# Altium schematic symbol library THUVIEN.SchLib: 7 symbols
Pins are listed as number, name and electrical type; pins without a type are passive.

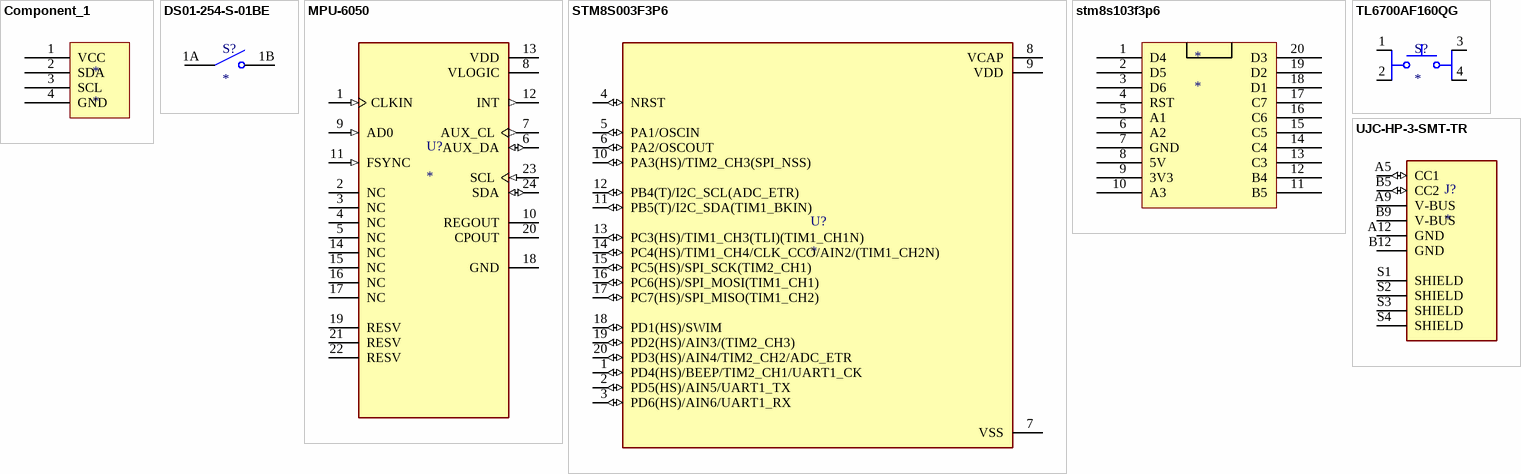
[diagram p0: symbols Component_1 to UJC-HP-3-SMT-TR]

## Component_1
designator *
footprint PCBComponent_1
pins: 1 VCC, 2 SDA, 3 SCL, 4 GND

## DS01-254-S-01BE
designator S?
1 Position, Through Hole, 2.54 mm Pitch, Raised Slide Actuator, Flat Bottom, Short Pin, DIP Switch; MF: Same Sky; MP: DS01-254-S-01BE; SnapEDA_Link: https://www.snapeda.com/parts/DS01-254-S-01BE/Same+Sky/view-part/?ref=snap; Package: None; Value: *; Check_prices: https://www.snapeda.com/parts/DS01-254-S-01BE/Same+Sky/view-part/?ref=eda
footprint SW_DS01-254-S-01BE
pins: 1A COM1, 1B NO1

## MPU-6050
designator U?
MPU-6050 series Accelerometer, Gyroscope, 3 Axis Sensor Evaluation Board; MF: TDK InvenSense; SnapEDA_Link: https://www.snapeda.com/parts/MPU-6050/TDK+InvenSense/view-part/?ref=snap; Package: QFN-24 InvenSense; Value: *; MP: MPU-6050; Check_prices: https://www.snapeda.com/parts/MPU-6050/TDK+InvenSense/view-part/?ref=eda
footprint QFN50P400X400X95-24N
pins: 1 CLKIN (in), 2 NC, 3 NC, 4 NC, 5 NC, 6 AUX_DA (io), 7 AUX_CL (out), 8 VLOGIC (power), 9 AD0 (in), 10 REGOUT, 11 FSYNC (in), 12 INT (out), 13 VDD (power), 14 NC, 15 NC, 16 NC, 17 NC, 18 GND (power), 19 RESV, 20 CPOUT, 21 RESV, 22 RESV, 23 SCL (in), 24 SDA (io)

## STM8S003F3P6
designator U?
STM8 series Microcontroller IC 8-Bit 16MHz 8KB (8K x 8) FLASH 20-TSSOP; MF: STMicroelectronics; MP: STM8S003F3P6; SnapEDA_Link: https://www.snapeda.com/parts/STM8S003F3P6/STMicroelectronics/view-part/?ref=snap; Package: TSSOP-20 STMicroelectronics; Value: *; Check_prices: https://www.snapeda.com/parts/STM8S003F3P6/STMicroelectronics/view-part/?ref=eda
footprint SOP65P640X120-20N
pins: 1 PD4(HS)/BEEP/TIM2_CH1/UART1_CK (io), 2 PD5(HS)/AIN5/UART1_TX (io), 3 PD6(HS)/AIN6/UART1_RX (io), 4 NRST (io), 5 PA1/OSCIN (io), 6 PA2/OSCOUT (io), 7 VSS (power), 8 VCAP (power), 9 VDD (power), 10 PA3(HS)/TIM2_CH3(SPI_NSS) (io), 11 PB5(T)/I2C_SDA(TIM1_BKIN) (io), 12 PB4(T)/I2C_SCL(ADC_ETR) (io), 13 PC3(HS)/TIM1_CH3(TLI)(TIM1_CH1N) (io), 14 PC4(HS)/TIM1_CH4/CLK_CCO/AIN2/(TIM1_CH2N) (io), 15 PC5(HS)/SPI_SCK(TIM2_CH1) (io), 16 PC6(HS)/SPI_MOSI(TIM1_CH1) (io), 17 PC7(HS)/SPI_MISO(TIM1_CH2) (io), 18 PD1(HS)/SWIM (io), 19 PD2(HS)/AIN3/(TIM2_CH3) (io), 20 PD3(HS)/AIN4/TIM2_CH2/ADC_ETR (io)

## stm8s103f3p6
designator *
footprint DIP20 - duplicate
pins: 1 D4, 2 D5, 3 D6, 4 RST, 5 A1, 6 A2, 7 GND, 8 5V, 9 3V3, 10 A3, 11 B5, 12 B4, 13 C3, 14 C4, 15 C5, 16 C6, 17 C7, 18 D1, 19 D2, 20 D3

## TL6700AF160QG
designator S?
MP: TL6700AF160QG; Value: *; Package: None; Price: None; Availability: Unavailable
footprint SW_TL6700AF160QG
pins: 1, 2, 3, 4

## UJC-HP-3-SMT-TR
designator J?
MP: UJC-HP-3-SMT-TR; Package: None; Price: None; Value: *; Availability: Unavailable
footprint CUI_UJC-HP-3-SMT-TR
pins: A5 CC1 (io), A9 V-BUS (power), A12 GND (power), B5 CC2 (io), B9 V-BUS (power), B12 GND (power), S1 SHIELD, S2 SHIELD, S3 SHIELD, S4 SHIELD